# Altium schematic symbol library GENERIC_CRYSTAL_CERAMIC.SchLib: 1 symbol
Pins are listed as number, name and electrical type; pins without a type are passive.

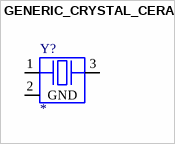
[diagram p0: symbol GENERIC_CRYSTAL_CERAMIC]

## GENERIC_CRYSTAL_CERAMIC
designator Y?
pins: 1, 2 GND, 3